# Altium footprint library ZLM.PcbLib: 58 footprints (part 3 of 4)
Each footprint in its own frame and in the unit in brackets; x right, y up, seen from the top. Pads: shape width x height; smd on the part's side, far side on the other; paste and mask are expansions set on the pad; w line width, h text height; cw(c..) or ccw(c..) is an arc to the next point about the centre after c.
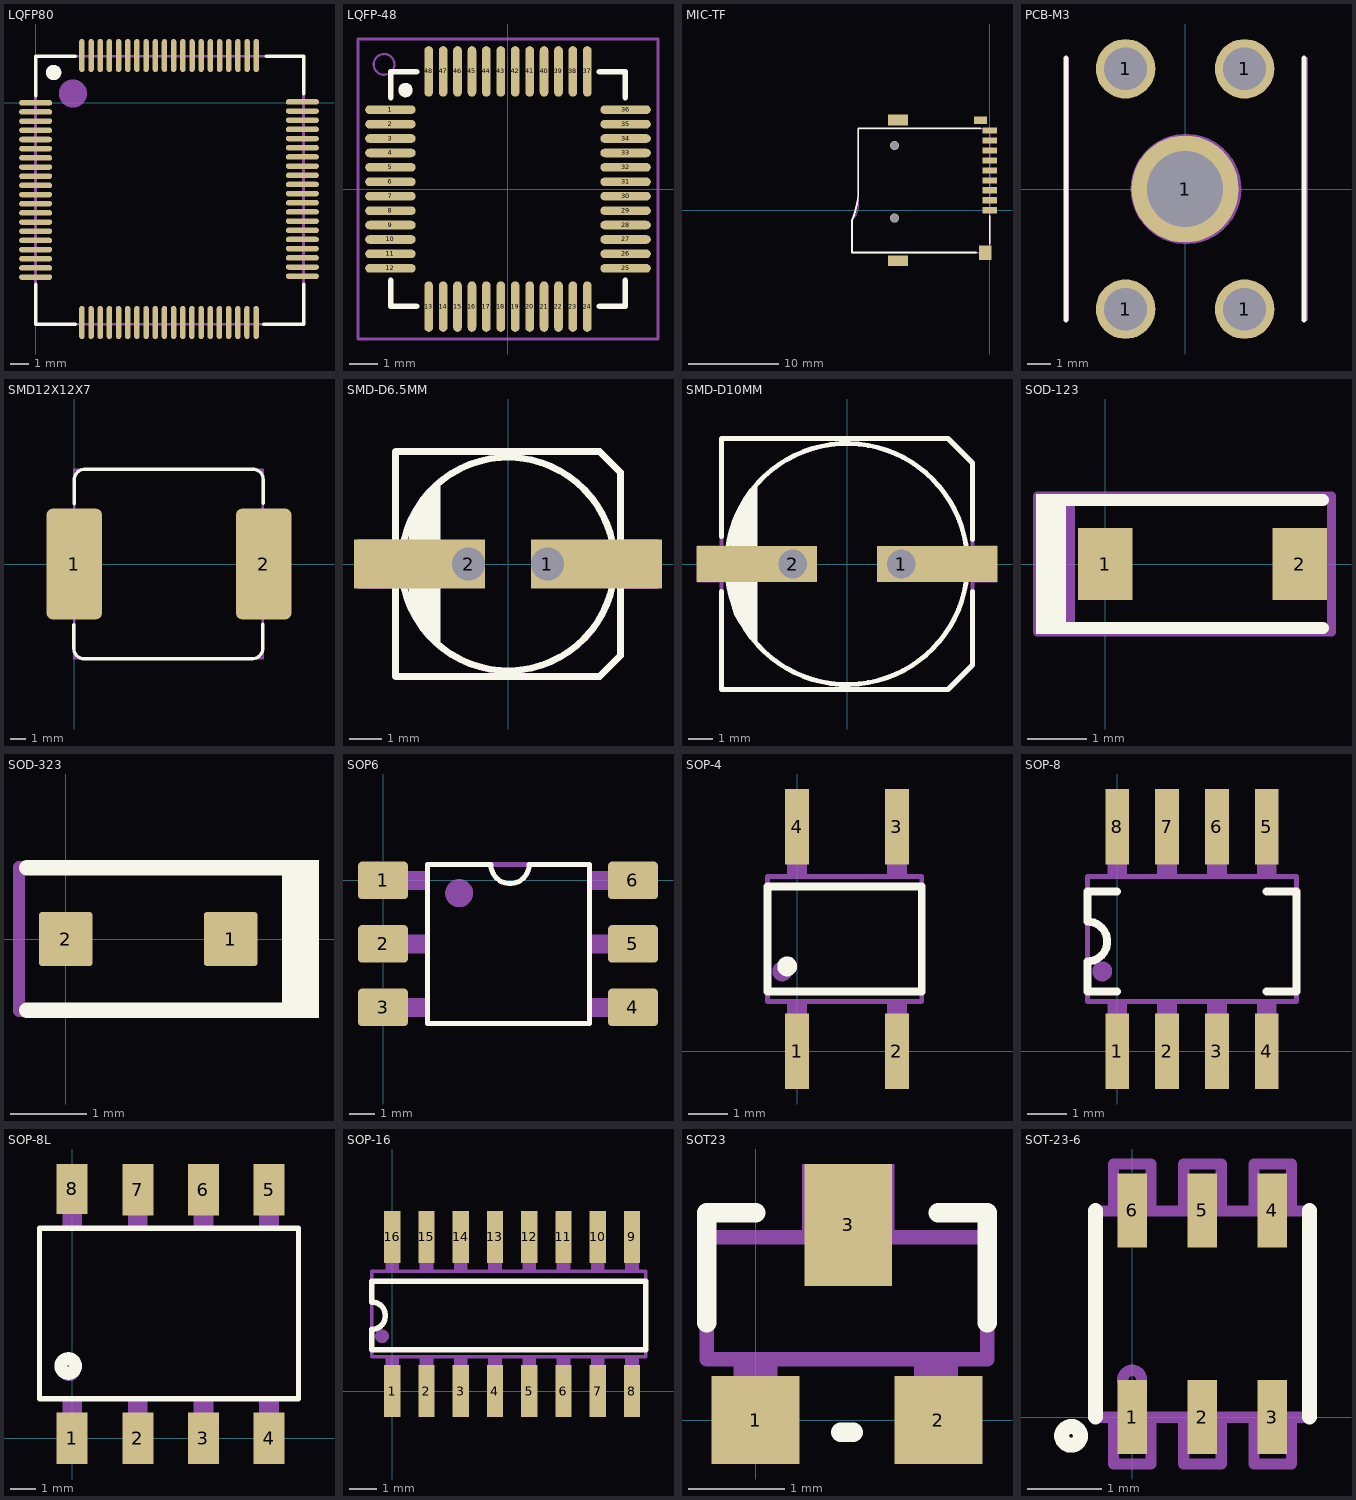
[diagram p2: the footprints below, top view; thin cyan lines are the x and y axes]

## LQFP80 [mm]
pads (80):
  oval 1.8x0.3 smd: 1(0,0) 2(0,-0.5) 3(0,-1) 4(0,-1.5) 5(0,-2) 6(0,-2.5) 7(0,-3) 8(0,-3.5) 9(0,-4) 10(0,-4.5) 11(0,-5) 12(0,-5.5) 13(0,-6) 14(0,-6.5) 15(0,-7) 16(0,-7.5) 17(0,-8) 18(0,-8.5) 19(0,-9) 20(0,-9.5) 41(14.536,-9.449) 42(14.536,-8.949) 43(14.536,-8.449) 44(14.536,-7.949) 45(14.536,-7.449) 46(14.536,-6.949) 47(14.536,-6.449) 48(14.536,-5.949) 49(14.536,-5.449) 50(14.536,-4.949) 51(14.536,-4.449) 52(14.536,-3.949) 53(14.536,-3.449) 54(14.536,-2.949) 55(14.536,-2.449) 56(14.536,-1.949) 57(14.536,-1.449) 58(14.536,-0.949) 59(14.536,-0.449) 60(14.536,0.051)
  oval 0.3x1.8 smd: 21(2.518,-11.972) 22(3.018,-11.972) 23(3.518,-11.972) 24(4.018,-11.972) 25(4.518,-11.972) 26(5.018,-11.972) 27(5.518,-11.972) 28(6.018,-11.972) 29(6.518,-11.972) 30(7.018,-11.972) 31(7.518,-11.972) 32(8.018,-11.972) 33(8.518,-11.972) 34(9.018,-11.972) 35(9.518,-11.972) 36(10.018,-11.972) 37(10.518,-11.972) 38(11.018,-11.972) 39(11.518,-11.972) 40(12.018,-11.972) 61(12.022,2.578) 62(11.522,2.578) 63(11.022,2.578) 64(10.522,2.578) 65(10.022,2.578) 66(9.522,2.578) 67(9.022,2.578) 68(8.522,2.578) 69(8.022,2.578) 70(7.522,2.578) 71(7.022,2.578) 72(6.522,2.578) 73(6.022,2.578) 74(5.522,2.578) 75(5.022,2.578) 76(4.522,2.578) 77(4.022,2.578) 78(3.522,2.578) 79(3.022,2.578) 80(2.522,2.578)
Top Overlay:
  circle w0.508: c0.979,1.651 r0.164
  lines w0.203: 0,-9.906 0,-12.065 2.159,-12.065 ; 0,0.381 0,2.54 2.159,2.54 ; 12.446,-12.065 14.605,-12.065 14.605,-9.906 ; 12.573,2.54 14.605,2.54 14.605,0.508
Mechanical 5:
  circle w1.27: c2.032,0.508 r0.127
  lines w0.152: 0,-12.065 14.605,-12.065 14.605,2.54 0,2.54 0,-12.065
  text ".Designator" at 4.496,-4.851 h0.76

## LQFP-48 [mm]
pads (48):
  oval 1.75x0.3 smd: 1(-4.075,2.75) 2(-4.075,2.25) 3(-4.075,1.75) 4(-4.075,1.25) 5(-4.075,0.75) 6(-4.075,0.25) 7(-4.075,-0.25) 8(-4.075,-0.75) 9(-4.075,-1.25) 10(-4.075,-1.75) 11(-4.075,-2.25) 12(-4.075,-2.75) 25(4.075,-2.75) 26(4.075,-2.25) 27(4.075,-1.75) 28(4.075,-1.25) 29(4.075,-0.75) 30(4.075,-0.25) 31(4.075,0.25) 32(4.075,0.75) 33(4.075,1.25) 34(4.075,1.75) 35(4.075,2.25) 36(4.075,2.75)
  oval 0.3x1.75 smd: 13(-2.75,-4.075) 14(-2.25,-4.075) 15(-1.75,-4.075) 16(-1.25,-4.075) 17(-0.75,-4.075) 18(-0.25,-4.075) 19(0.25,-4.075) 20(0.75,-4.075) 21(1.25,-4.075) 22(1.75,-4.075) 23(2.25,-4.075) 24(2.75,-4.075) 37(2.75,4.075) 38(2.25,4.075) 39(1.75,4.075) 40(1.25,4.075) 41(0.75,4.075) 42(0.25,4.075) 43(-0.25,4.075) 44(-0.75,4.075) 45(-1.25,4.075) 46(-1.75,4.075) 47(-2.25,4.075) 48(-2.75,4.075)
Top Overlay:
  circle w0.25: c-3.554,3.429 r0.125
  lines w0.203: -4.064,-3.175 -4.064,-4.064 -3.175,-4.064 ; -4.064,3.175 -4.064,4.064 -3.175,4.064 ; 3.175,-4.064 4.064,-4.064 4.064,-3.175 ; 3.175,4.064 4.064,4.064 4.064,3.175
Mechanical 5:
  circle w0.076: c-4.296,4.318 r0.359
  lines w0.1: -5.2,-5.2 5.2,-5.2 5.2,5.2 -5.2,5.2 -5.2,-5.2

## MIC-TF [mm]
pads (15):
  rect 1.6x0.7 smd: 1(0,0) 2(0,1.1) 3(0,2.2) 4(0,3.3) 5(0,4.4) 6(0,5.5) 7(0,6.6) 8(0,7.7) 9(0,8.8)
  round 1 hole 0.9: ""(-10.5,-0.85) ""(-10.5,7.15)
  rect 2.2x1.2 smd: ""(-10.1,-5.55) ""(-10.1,9.95)
  rect 1.4x0.8 smd: ""(-1.016,9.95)
  rect 1.4x1.6 smd: ""(-0.5,-4.65)
Top Overlay:
  lines w0.203: -15.208,-1.102 ccw(c-23.376,2.454) -14.5,1.692 -14.5,9.058 -1.016,9.058 ; -15.2,-1.102 -15.2,-4.658 -1.524,-4.658 ; 0,-3.642 0,-0.594
Mechanical 5:
  lines w0.152: -15.24,-4.699 -15.24,-1.143 ccw(c-17.08,0.697) -14.478,0.697 -14.478,1.397 -14.478,9.017 0,9.017 0,-4.699 -15.24,-4.699
  text ".Designator" at -4.064,5.588 h0.76

## PCB-M3 [mm]
pads (5):
  round 2.5 hole 1.8: 1(-2.5,-5.05) 1(-2.5,5.05) 1(2.5,-5.05) 1(2.5,5.05)
  round 4.5 hole 3.2: 1(0,0)
Top Overlay:
  lines w0.203: -5,-5.5 -5,5.5 ; 5,-5.5 5,5.5
Mechanical 5:
  circle w0.152: c0.039,0 r2.247
  lines w0.152: -4.953,-5.461 -4.953,5.461 ; 5.08,-5.461 5.08,5.461
  text ".Designator" at -2.286,-3.556 h0.76

## SMD12X12X7 [mm]
height 0.55
pads (2):
  rrect20% 3.5x7 smd: 1(0,0) 2(12,0)
Top Overlay:
  lines w0.203: -0.031,-3.841 -0.031,-5.365 ccw(c0.62,-5.35) 0.635,-6 11.303,-6 ccw(c11.288,-5.35) 11.938,-5.334 11.938,-3.81 ; 0,3.81 0,5.334 cw(c0.65,5.35) 0.635,6 11.303,6 cw(c11.318,5.35) 11.969,5.365 11.969,3.841
Mechanical 5:
  rectangle: 12.065,-3.048 13.589,3.175
  rectangle: -1.651,-3.048 -0.127,3.175
  lines w0.152: 0,-5.969 0,-5.588 0,5.461 0,5.969 11.938,5.969 11.938,-5.969 2.54,-5.969 0,-5.969
  text ".Designator" at 2.54,0 h0.76

## SMD-D6.5MM [mm]
pads (2):
  rect 4x1.5 hole 1 copper offset 1.5,0: 1(1.2,0)
  rect 4x1.5 hole 1 copper offset -1.5,0: 2(-1.2,0)
Top Overlay:
  circle w0.203: c0,0 r3.25
  region: -2.159,-2.413 -2.159,2.413 -2.313,2.277 -2.63,1.89 -2.866,1.449 -3.011,0.97 -3.06,0.472 -3.048,0.472 -3.06,-0.508 -3.013,-0.989 -2.872,-1.451 -2.644,-1.877 -2.338,-2.251 -2.33,-2.242
  lines w0.203: -2.159,-2.413 -2.159,2.413 ; -3.429,-3.429 2.794,-3.429 3.429,-2.794 3.429,2.794 2.794,3.429 -3.429,3.429 -3.429,-3.429
Mechanical 5:
  circle w0.152: c0,0 r3.277
  rectangle: 3.429,-0.762 4.572,0.762
  rectangle: -4.572,-0.762 -3.429,0.762
  lines w0.152: -2.794,-1.651 -2.794,1.651 ; -2.159,-2.413 -2.159,2.413 ; -3.429,-3.429 -3.429,3.429 2.794,3.429 3.429,2.794 3.429,-2.794 2.794,-3.429 -3.429,-3.429
  text ".Designator" at -1.651,-0.381 h0.76

## SMD-D10MM [mm]
pads (2):
  rect 5x1.5 hole 1.2 copper offset 1.5,0: 1(2.25,0)
  rect 5x1.5 hole 1.2 copper offset -1.5,0: 2(-2.25,0)
Top Overlay:
  circle w0.203: c0,0 r5
  region: -3.81,-3.175 -3.81,3.175 -4.091,2.912 -4.408,2.525 -4.644,2.084 -4.789,1.605 -4.838,1.107 -4.826,1.107 -4.836,-1.27 -4.795,-1.691 -4.672,-2.095 -4.473,-2.468 -4.205,-2.795 -4.197,-2.788
  lines w0.203: -5.207,-1.143 -5.207,-5.207 4,-5.207 4.191,-5.207 5.207,-4.191 5.207,-1.143 ; -5.207,1.143 -5.207,5.207 4.191,5.207 5.207,4.191 5.207,1.016 ; -3.81,-3.175 -3.81,3.175
Mechanical 5:
  circle w0.152: c0,0 r4.981
  rectangle: 5.207,-0.762 6.223,0.762
  rectangle: -6.223,-0.762 -5.207,0.762
  lines w0.152: -4.445,-2.159 -4.445,2.159 ; -3.81,-3.175 -3.81,3.175 ; -5.207,-5.207 4.191,-5.207 5.207,-4.191 5.207,4.191 4.191,5.207 -5.207,5.207 -5.207,-5.207
  text ".Designator" at -1.651,-0.254 h0.76

## SOD-123 [mm]
pads (2):
  rect 0.915x1.22 smd: 1(0,0) 2(3.275,0)
Top Overlay:
  rectangle: -1.168,-1.181 -0.66,1.181
  lines w0.203: -0.776,-1.079 3.669,-1.079 ; -0.776,1.079 3.669,1.079
Mechanical 5:
  rectangle: -1.143,-1.143 -0.508,1.143
  lines w0.152: -1.143,-1.143 3.81,-1.143 3.81,1.143 -1.143,1.143 -1.143,-1.143
  text ".Designator" at 0,-0.254 h0.76

## SOD-323 [mm]
pads (2):
  rrect10% 0.7x0.7 smd: 1(2.15,0) 2(0,0)
Top Overlay:
  rectangle: 2.921,-1.029 3.302,1.029
  lines w0.203: -0.508,-0.927 2.921,-0.927 ; -0.508,0.927 2.921,0.927 ; 2.921,-0.925 2.921,0.925
Mechanical 5:
  rectangle: 2.845,-1.016 3.302,1.016
  lines w0.152: 2.946,-0.94 -0.61,-0.94 -0.61,0.94 2.997,0.94
  text ".Designator" at -0.051,-0.229 h0.46

## SOP6 [mm]
pads (6):
  rrect20% 2x1.5 smd: 1(0,0) 2(0,-2.54) 3(0,-5.08) 4(10,-5.08) 5(10,-2.54) 6(10,0)
Top Overlay:
  lines w0.203: 1.778,-5.715 1.778,0.635 4.318,0.635 ccw(c5.08,0.635) 5.842,0.635 8.255,0.635 8.255,-5.715 1.778,-5.715
Mechanical 5:
  circle w0.762: c3.048,-0.508 r0.18
  rectangle: 0,-0.381 1.778,0.381
  rectangle: 0,-2.921 1.778,-2.159
  rectangle: 0,-5.461 1.778,-4.699
  rectangle: 8.255,-5.461 10.033,-4.699
  rectangle: 8.255,-2.921 10.033,-2.159
  rectangle: 8.255,-0.381 10.033,0.381
  lines w0.203: 1.778,-5.715 1.778,0.635 8.255,0.635 8.255,-5.715 1.778,-5.715
  text ".Designator" at 2.667,-3.048 h1.02

## SOP-4 [mil]
pads (4):
  rect 24x76 smd: 1(0,0) 2(100,0) 3(100,225) 4(0,225)
Top Overlay:
  circle w10: c-10,85 r5
  lines w8: -30,60 125,60 125,165 -30,165 -30,90 -30,60
Mechanical 5:
  circle w10: c-15,80 r5
  rectangle: -10,-15 10,50
  rectangle: 90,-15 110,50
  rectangle: 90,175 110,240
  rectangle: -10,175 10,240
  lines w5: -30,50 125,50 125,175 -30,175 -30,50
  text ".Designator" at -15,105 h18

## SOP-8 [mil]
pads (8):
  rect 24x76 smd: 1(0,0) 2(50,0) 3(100,0) 4(150,0) 5(150,225) 6(100,225) 7(50,225) 8(0,225)
Top Overlay:
  lines w8: 0,60 -30,60 -30,90 ccw(c-30,110) -30,130 -30,160 0,160 ; 150,60 180,60 180,160 150,160
Mechanical 5:
  circle w10: c-15,80 r5
  rectangle: -10,175 10,240
  rectangle: 40,175 60,240
  rectangle: 90,175 110,240
  rectangle: 140,175 160,240
  rectangle: 140,-15 160,50
  rectangle: 90,-15 110,50
  rectangle: 40,-15 60,50
  rectangle: -10,-15 10,50
  lines w5: -30,50 -30,175 180,175 180,50 -30,50
  text ".Designator" at 5,90 h18

## SOP-8L [mm]
pads (8):
  rect 1.2x2 smd: 1(0,0) 2(2.54,0) 3(5.08,0) 4(7.62,0) 5(7.62,9.615) 6(5.08,9.615) 7(2.54,9.615)
  rect 1.2x1.93 smd: 8(0,9.65)
Top Overlay:
  circle w0.5: c-0.157,2.794 r0.284
  lines w0.203: -0.762,1.524 0,1.524 ; -1.27,1.524 -1.27,8.128 8.763,8.128 8.763,1.524 -1.27,1.524
Mechanical 5:
  circle w0.152: c-0.127,2.667 r0.381
  rectangle: -0.381,8.128 0.381,10.16
  rectangle: 2.159,8.128 2.921,10.16
  rectangle: 4.699,8.128 5.461,10.16
  rectangle: 7.239,8.128 8.001,10.16
  rectangle: 7.239,-0.508 8.001,1.524
  rectangle: 4.699,-0.508 5.461,1.524
  rectangle: 2.159,-0.508 2.921,1.524
  rectangle: -0.381,-0.508 0.381,1.524
  lines w0.152: -1.27,1.524 -1.27,8.128 8.763,8.128 8.763,1.524 -1.27,1.524
  text ".Designator" at 0.508,4.318 h0.76

## SOP-16 [mil]
pads (16):
  rect 24x76 smd: 1(0,0) 2(50,0) 3(100,0) 4(150,0) 5(200,0) 6(250,0) 7(300,0) 8(350,0) 9(350,225) 10(300,225) 11(250,225) 12(200,225) 13(150,225) 14(100,225) 15(50,225) 16(0,225)
Top Overlay:
  lines w8: -30,60 0,60 370,60 370,160 0,160 -30,160 -30,130 cw(c-30,110) -30,90 -30,60
Mechanical 5:
  circle w10: c-15,80 r5
  rectangle: 340,175 360,240
  rectangle: 290,175 310,240
  rectangle: 240,175 260,240
  rectangle: 190,175 210,240
  rectangle: 340,-15 360,50
  rectangle: 290,-15 310,50
  rectangle: 240,-15 260,50
  rectangle: 190,-15 210,50
  rectangle: -10,-15 10,50
  rectangle: 40,-15 60,50
  rectangle: 90,-15 110,50
  rectangle: 140,-15 160,50
  rectangle: 140,175 160,240
  rectangle: 90,175 110,240
  rectangle: 40,175 60,240
  rectangle: -10,175 10,240
  lines w5: -30,50 370,50 370,175 -30,175 -30,50
  text ".Designator" at 10,100 h18

## SOT23 [mil]
pads (3):
  rect 36x36 smd: 1(0,0) 2(75,0)
  rect 36x50 smd: 3(38,80)
Top Overlay:
  lines w8: -20,40 -20,85 0,85 ; 35,-5 40,-5 ; 75,85 95,85 95,40
Mechanical 5:
  rectangle: 65,-12 83,25
  rectangle: -9,-12 9,25
  rectangle: 19,75 57,105
  lines w6: -20,25 -20,75 95,75 95,25 -20,25
  text ".Designator" at -10,40 h18

## SOT-23-6 [mm]
pads (6):
  rect 0.4x1 smd: 1(0,0) 2(0.95,0) 3(1.9,0) 4(1.9,2.8) 5(0.95,2.8) 6(0,2.8)
Top Overlay:
  circle w0.203: c-0.828,-0.254 r0.127
  lines w0.203: -0.5,0 -0.5,2.794 -0.494,2.8 ; 2.4,0 2.4,2.8
Mechanical 5:
  circle w0.152: c0,0.508 r0.127
  lines w0.152: -0.254,0 -0.254,-0.635 0.254,-0.635 0.254,0 ; -0.254,2.794 -0.254,3.429 0.254,3.429 0.254,2.794 ; 0.699,-0.064 0.699,-0.635 1.206,-0.635 1.206,-0.064 ; 0.699,2.857 0.699,3.429 1.206,3.429 1.206,2.857 ; 1.651,0 1.651,-0.635 2.159,-0.635 2.159,0 ; 1.651,2.794 1.651,3.429 2.159,3.429 2.159,2.794 ; -0.508,0 2.413,0 2.413,2.794 -0.508,2.794 -0.508,0
  text ".Designator" at -0.127,1.27 h0.46